# Altium schematic symbol library Schlib1.SchLib: 1 symbol
Pins are listed as number, name and electrical type; pins without a type are passive.

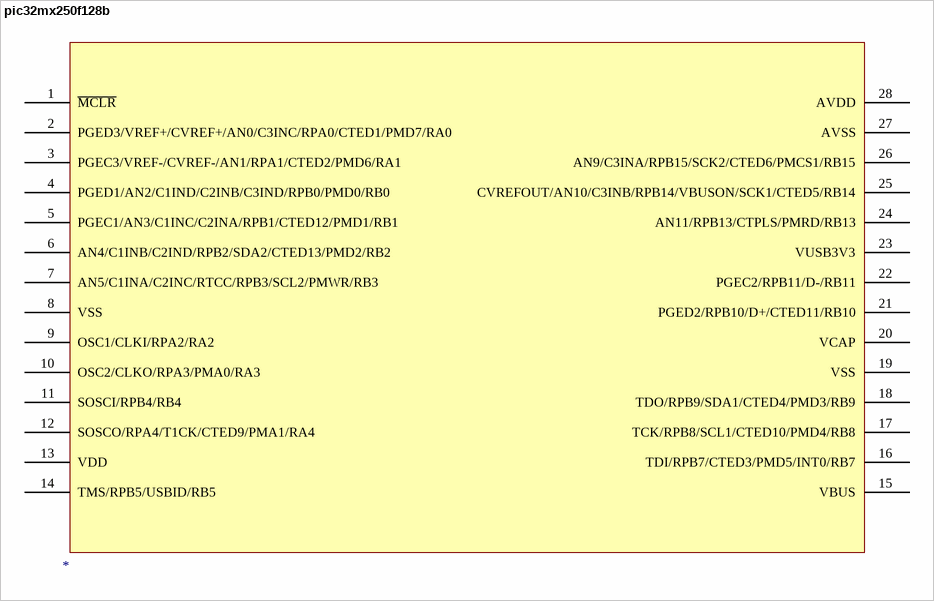
[diagram p0: symbol pic32mx250f128b]

## pic32mx250f128b
designator ?
pins: 1 ~{MCLR}, 2 PGED3/VREF+/CVREF+/AN0/C3INC/RPA0/CTED1/PMD7/RA0, 3 PGEC3/VREF-/CVREF-/AN1/RPA1/CTED2/PMD6/RA1, 4 PGED1/AN2/C1IND/C2INB/C3IND/RPB0/PMD0/RB0, 5 PGEC1/AN3/C1INC/C2INA/RPB1/CTED12/PMD1/RB1, 6 AN4/C1INB/C2IND/RPB2/SDA2/CTED13/PMD2/RB2, 7 AN5/C1INA/C2INC/RTCC/RPB3/SCL2/PMWR/RB3, 8 VSS, 9 OSC1/CLKI/RPA2/RA2, 10 OSC2/CLKO/RPA3/PMA0/RA3, 11 SOSCI/RPB4/RB4, 12 SOSCO/RPA4/T1CK/CTED9/PMA1/RA4, 13 VDD, 14 TMS/RPB5/USBID/RB5, 15 VBUS, 16 TDI/RPB7/CTED3/PMD5/INT0/RB7, 17 TCK/RPB8/SCL1/CTED10/PMD4/RB8, 18 TDO/RPB9/SDA1/CTED4/PMD3/RB9, 19 VSS, 20 VCAP, 21 PGED2/RPB10/D+/CTED11/RB10, 22 PGEC2/RPB11/D-/RB11, 23 VUSB3V3, 24 AN11/RPB13/CTPLS/PMRD/RB13, 25 CVREFOUT/AN10/C3INB/RPB14/VBUSON/SCK1/CTED5/RB14, 26 AN9/C3INA/RPB15/SCK2/CTED6/PMCS1/RB15, 27 AVSS, 28 AVDD